# Altium footprint library JFD_Semi.PcbLib: 13 footprints
Each footprint in its own frame and in the unit in brackets; x right, y up, seen from the top. Pads: shape width x height; smd on the part's side, far side on the other; paste and mask are expansions set on the pad; w line width, h text height; cw(c..) or ccw(c..) is an arc to the next point about the centre after c.
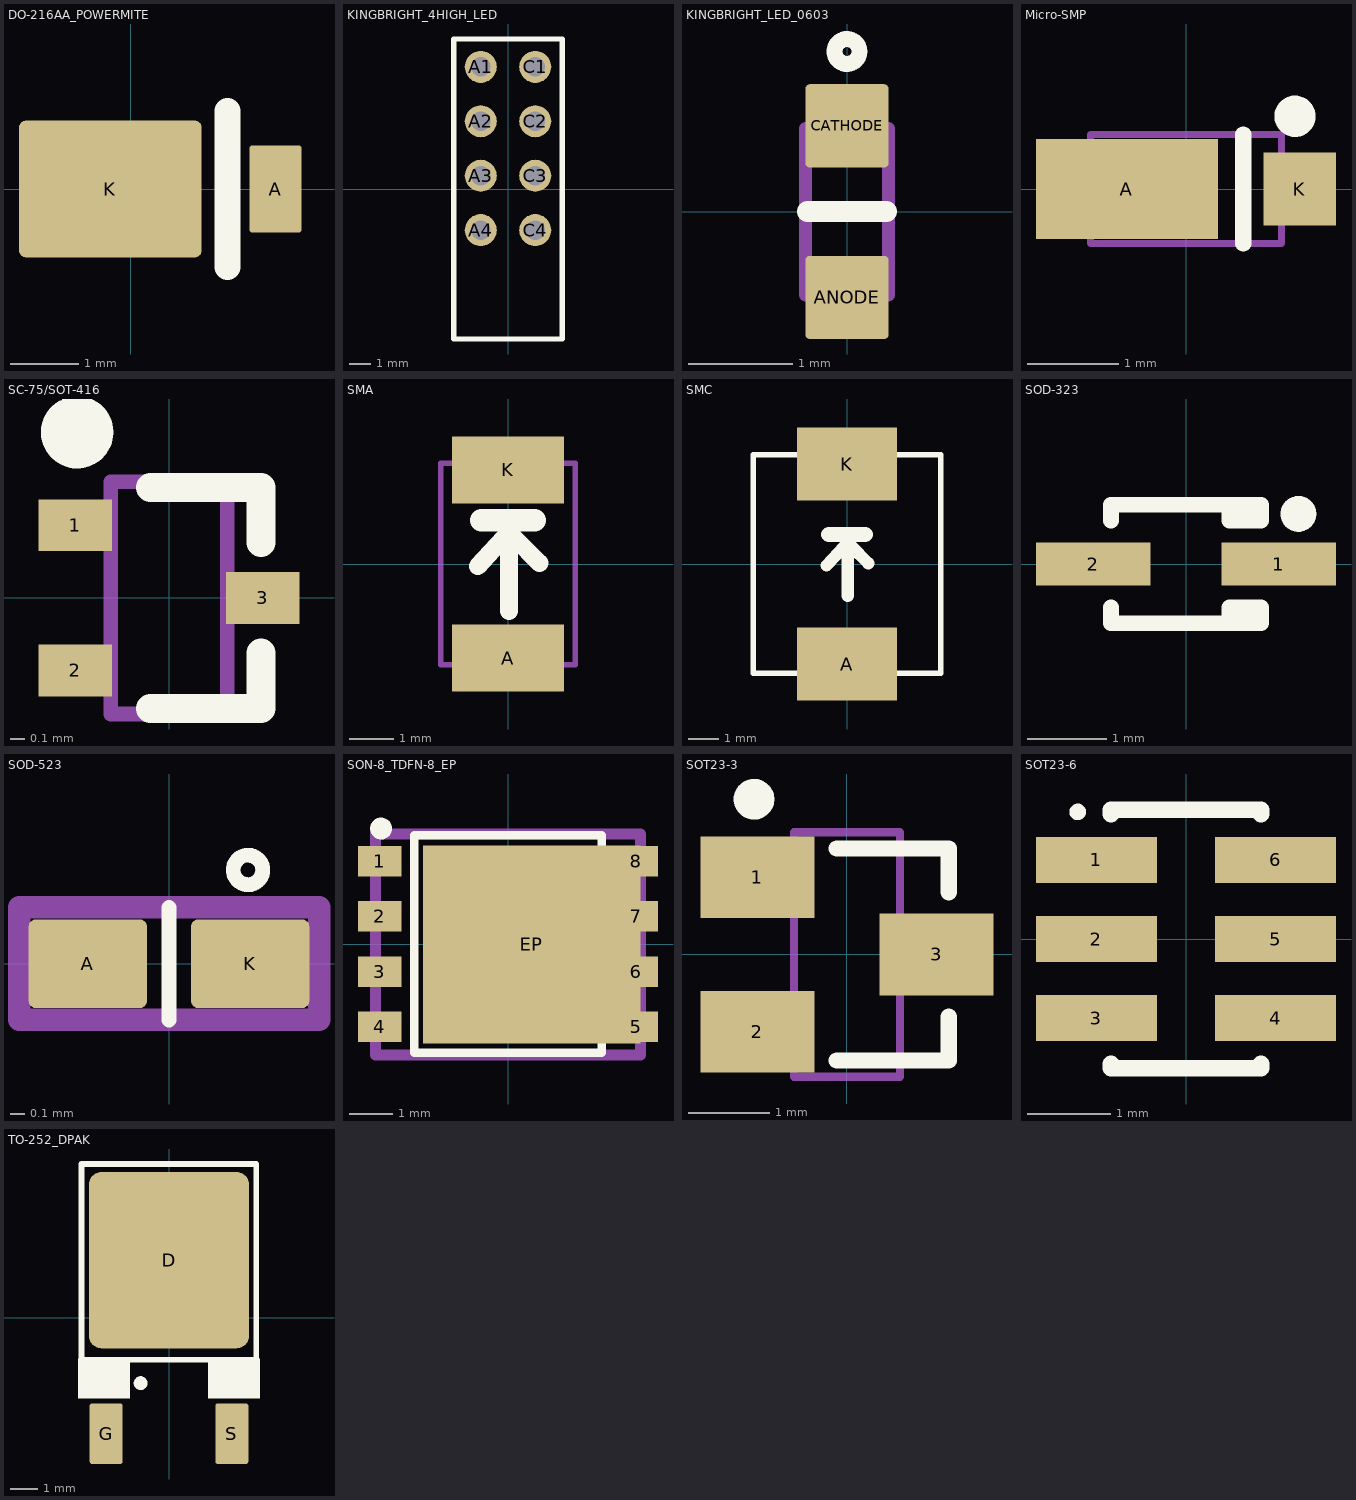
[diagram p0: the footprints below, top view; thin cyan lines are the x and y axes]

## DO-216AA_POWERMITE [mm]
height 1.15
pads (2):
  rrect10% 0.762x1.27 smd: A(2.116,0)
  rrect10% 2.67x2 smd: K(-0.299,0)
Top Overlay:
  lines w0.381: 1.416,-1.143 1.416,1.143
3D body: height 1.02, standoff 0, extent -1.385,-0.955 2.375,0.955

## KINGBRIGHT_4HIGH_LED [mm]
pads (8):
  round 1.5 hole 0.9: A1(-1.27,5.7) A2(-1.27,3.16) A3(-1.27,0.62) A4(-1.27,-1.92) C1(1.27,5.7) C2(1.27,3.16) C3(1.27,0.62) C4(1.27,-1.92)
Top Overlay:
  lines w0.254: -2.54,-7 -2.54,7 2.54,7 2.54,-7 -2.54,-7
3D body: height 12, standoff -1.7, extent -2.54,-9.2 2.54,7

## KINGBRIGHT_LED_0603 [mm]
height 0.75
pads (2):
  rrect10% 0.8x0.8 smd: ANODE(0,-0.825) CATHODE(0,0.825)
Top Overlay:
  circle w0.152: c0,1.54 r0.12
  lines w0.203: -0.381,0 0.381,0
Mechanical 13:
  lines w0.125: -0.4,-0.8 0.4,-0.8 0.4,0.8 -0.4,0.8 -0.4,-0.8
3D body: height 0.68, standoff 0, extent -0.371,-0.825 0.354,0.825

## Micro-SMP [mm]
height 0.73
pads (2):
  rect 2x1.1 smd: A(-0.65,0)
  rect 0.8x0.8 smd: K(1.25,0)
Top Overlay:
  circle w0.254: c1.2,0.8 r0.1
  lines w0.178: 0.63,-0.6 0.63,0.6
Mechanical 13:
  lines w0.075: -1.05,-0.6 -1.05,0.6 1.05,0.6 1.05,-0.6 -1.05,-0.6
3D body: height 0.63, standoff 0, extent -1.35,-0.7 1.35,0.7

## SC-75/SOT-416 [mil]
height 35.43
pads (3):
  rect 20x14.02 smd: 1(-25.47,19.68) 2(-25.47,-19.68) 3(25.47,0)
Top Overlay:
  circle w9.84: c-24.92,45 r4.92
  lines w7.87: -5,-30 25,-30 25,-15 ; -5,30 25,30 25,15
Mechanical 13:
  lines w3.94: -15.75,-31.5 15.75,-31.5 15.75,31.5 -15.75,31.5 -15.75,-31.5
3D body: height 26.48, standoff -1.43, extent -30.79,-31.49 32.21,31.5

## SMA [mm]
height 2.6
pads (2):
  rect 2.5x1.5 smd: A(0,-2.1) K(0,2.1)
Top Overlay:
  lines w0.4: -0.675,-0.05 -0.1,0.575 ; 0.025,-1.05 0.025,0.375 ; 0.15,0.575 0.7,0.025
  lines w0.508: -0.6,0.975 0.6,0.975
Mechanical 13:
  lines w0.125: -1.5,-2.25 1.5,-2.25 1.5,2.25 -1.5,2.25 -1.5,-2.25
3D body: height 2.4, standoff 0, extent -1.3,-2.6 1.3,2.6

## SMC [mm]
height 2.7
pads (2):
  rect 3.3x2.4 smd: A(0,-3.3) K(0,3.3)
Top Overlay:
  lines w0.178: -3.1,-3.6 3.1,-3.6 3.1,3.6 -3.1,3.6 -3.1,-3.6
  lines w0.4: -0.675,-0.05 -0.1,0.575 ; 0.025,-1.05 0.025,0.375 ; 0.15,0.575 0.7,0.025
  lines w0.508: -0.6,0.975 0.6,0.975
Mechanical 13:
  lines w0.125: -3.1,-3.6 -3.1,3.6 3.1,3.6 3.1,-3.6 -3.1,-3.6
3D body: height 2.3, standoff 0, extent -2.95,-3.975 2.95,3.975

## SOD-323 [mm]
height 1.1
pads (2):
  rect 1.45x0.55 smd: 1(1.175,0) 2(-1.175,0)
Top Overlay:
  circle w0.254: c1.424,0.635 r0.1
  lines w0.2: -0.95,-0.55 -0.95,-0.75 0.95,-0.75 0.95,-0.55 0.55,-0.55 0.55,-0.75 ; -0.95,0.55 -0.95,0.75 0.95,0.75 0.95,0.55 0.55,0.55 0.55,0.75
3D body: height 1.1, standoff 0, extent -1.3,-0.675 1.3,0.675

## SOD-523 [mm]
height 0.65
pads (2):
  rrect15% 0.8x0.6 smd: A(-0.55,0) K(0.55,0)
Top Overlay:
  circle w0.1: c0.535,0.635 r0.1
  lines w0.1: 0,-0.381 0,0.381
Mechanical 13:
  lines w0.152: -1.016,-0.381 -1.016,0.381 1.016,0.381 1.016,-0.381 -1.016,-0.381
3D body: height 0.7, standoff 0, extent -0.8,-0.399 0.8,0.399

## SON-8_TDFN-8_EP [mm]
height 1
pads (9):
  rect 1x0.7 smd: 1(-2.95,1.915) 2(-2.95,0.645) 3(-2.95,-0.625) 4(-2.95,-1.895) 5(2.95,-1.895) 6(2.95,-0.625) 7(2.95,0.645) 8(2.95,1.915)
  rect 5x4.56 smd: EP(0.55,0)
Top Overlay:
  circle w0.25: c-2.919,2.667 r0.125
  lines w0.2: -2.159,-2.49 -2.159,2.51 2.159,2.51 2.159,-2.49 -2.159,-2.49
Mechanical 13:
  lines w0.254: -3.05,-2.54 3.05,-2.54 3.05,2.54 -3.05,2.54 -3.05,-2.54
3D body: height 1, standoff 0, extent -3.048,-2.49 3.048,2.514

## SOT23-3 [mm]
height 1.1
pads (3):
  rect 1.4x1 smd: 1(-1.1,0.95) 2(-1.1,-0.95) 3(1.1,0)
Top Overlay:
  circle w0.25: c-1.141,1.905 r0.125
  lines w0.2: -0.127,-1.3 1.25,-1.3 1.25,-0.762 ; -0.127,1.3 1.25,1.3 1.25,0.762
Mechanical 13:
  lines w0.1: -0.65,-1.5 0.65,-1.5 0.65,1.5 -0.65,1.5 -0.65,-1.5
3D body: height 1.1, standoff 0, extent -1.15,-1.5 1.15,1.5

## SOT23-6 [mm]
height 1.3
pads (6):
  rect 1.45x0.55 smd: 1(-1.075,0.95) 2(-1.075,0) 3(-1.075,-0.95) 4(1.075,-0.95) 5(1.075,0) 6(1.075,0.95)
Top Overlay:
  circle w0.1: c-1.3,1.525 r0.05
  lines w0.2: -0.9,-1.5 -0.9,-1.55 0.9,-1.55 0.9,-1.5 ; -0.9,1.5 -0.9,1.55 0.9,1.55 0.9,1.5
3D body: height 1.3, standoff 0, extent -1.5,-1.5 1.5,1.5

## TO-252_DPAK [mm]
height 2.3
pads (3):
  rrect15% 5.8x6.4 smd: D(0,2.1)
  rrect15% 1.2x2.2 smd: G(-2.28,-4.2) S(2.28,-4.2)
Top Overlay:
  circle w0.25: c-1.03,-2.365 r0.125
  region: 3.302,-2.921 3.302,-1.48 1.42,-1.48 1.42,-2.921
  region: -1.41,-2.921 -1.41,-1.48 -3.302,-1.48 -3.302,-2.921
  lines w0.2: -3.175,5.588 3.175,5.588 3.175,-1.51
  lines w0.203: -3.175,5.588 -3.175,-1.51 3.175,-1.51
3D body: height 2.39, standoff 0, extent -3.365,-5.12 3.365,5.11